# Altium schematic symbol library OPA211.Schlib: 1 symbol
Pins are listed as number, name and electrical type; pins without a type are passive.

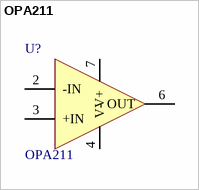
[diagram p0: symbol OPA211]

## OPA211
designator U?
footprint SO-8_N (SOIC, 8-Leads, Body 4.9x3.9mm, Pitch 1.27mm, IPC Medium Density)
pins: 2 -IN, 3 +IN, 4 V-, 6 OUT, 7 V+